# Altium footprint library SOIC.PcbLib: 2 footprints
Each footprint in its own frame and in the unit in brackets; x right, y up, seen from the top. Pads: shape width x height; smd on the part's side, far side on the other; paste and mask are expansions set on the pad; w line width, h text height; cw(c..) or ccw(c..) is an arc to the next point about the centre after c.
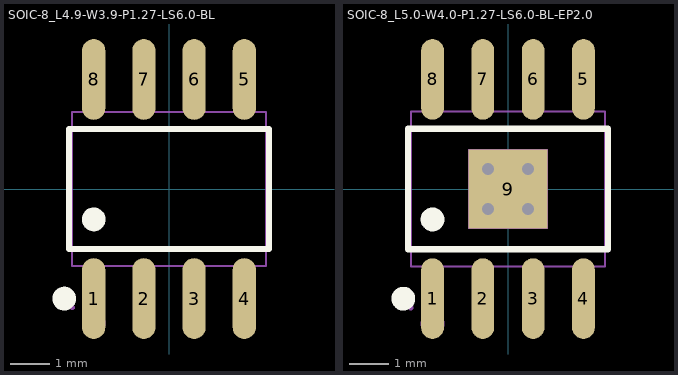
[diagram p0: the footprints below, top view; thin cyan lines are the x and y axes]

## SOIC-8_L4.9-W3.9-P1.27-LS6.0-BL [mm]
pads (8):
  oval 0.588x2.045 smd: 1(-1.905,-2.772) 2(-0.635,-2.772) 3(0.635,-2.772) 4(1.905,-2.772) 5(1.905,2.772) 6(0.635,2.772) 7(-0.635,2.772) 8(-1.905,2.772)
Top Overlay:
  circle w0.3: c-1.905,-0.769 r0.15
  circle w0.3: c-2.652,-2.772 r0.15
  lines w0.152: -2.526,-1.521 -2.526,1.521 2.526,1.521 2.526,-1.521 -2.526,-1.521
Mechanical 6:
  circle w0.3: c-1.905,-3.4 r0.15
Mechanical 15:
  region: -2.39,-3 -2.39,-2.975 -2.425,-2.94 -2.475,-2.94 -2.51,-2.975 -2.51,-3 -2.51,-3.025 -2.475,-3.06 -2.425,-3.06 -2.39,-3.025
  region: -2.115,-3 -2.115,-2.165 -1.695,-2.165 -1.695,-3
  region: -2.115,-2.175 -2.115,-1.94 -1.695,-1.94 -1.695,-2.175
  region: -0.845,-3 -0.845,-2.165 -0.425,-2.165 -0.425,-3
  region: -0.845,-2.175 -0.845,-1.94 -0.425,-1.94 -0.425,-2.175
  region: 0.425,-3 0.425,-2.165 0.845,-2.165 0.845,-3
  region: 0.425,-2.175 0.425,-1.94 0.845,-1.94 0.845,-2.175
  region: 1.695,-3 1.695,-2.165 2.115,-2.165 2.115,-3
  region: 1.695,-2.175 1.695,-1.94 2.115,-1.94 2.115,-2.175
  region: -2.115,3 -2.115,2.165 -1.695,2.165 -1.695,3
  region: -2.115,2.175 -2.115,1.94 -1.695,1.94 -1.695,2.175
  region: -0.845,3 -0.845,2.165 -0.425,2.165 -0.425,3
  region: -0.845,2.175 -0.845,1.94 -0.425,1.94 -0.425,2.175
  region: 0.425,3 0.425,2.165 0.845,2.165 0.845,3
  region: 0.425,2.175 0.425,1.94 0.845,1.94 0.845,2.175
  region: 1.695,3 1.695,2.165 2.115,2.165 2.115,3
  region: 1.695,2.175 1.695,1.94 2.115,1.94 2.115,2.175
  lines w0.051: -2.45,-1.95 -2.45,1.95 2.45,1.95 2.45,-1.95 -2.45,-1.95
3D body "U2.step": height 1.72, standoff 0, extent -2.407,-3 2.408,3

## SOIC-8_L5.0-W4.0-P1.27-LS6.0-BL-EP2.0 [mil]
height 62.99
pads (9):
  oval 22.6x80.2 smd mask+2: 1(-75,-109) 2(-25,-109) 3(25,-109) 4(75,-109) 5(75,109) 6(25,109) 7(-25,109) 8(-75,109)
  rect 78.7x78.7 smd mask+2: 9(0,0)
via 19.7,-19.7 diameter 24 hole 12
via -19.7,-19.7 diameter 24 hole 12
via -19.7,19.7 diameter 24 hole 12
via 19.7,19.7 diameter 24 hole 12
Top Overlay:
  circle w11.8: c-104.1,-109 r5.9
  circle w11.8: c-75,-30.3 r5.9
  lines w6: -99.5,-59.9 99.5,-59.9 99.5,59.9 -99.5,59.9 -99.5,-59.9
Mechanical 6:
  circle w11.8: c-75,-133.9 r5.9
Mechanical 15:
  region: -39.4,-39.4 -39.4,39.4 39.4,39.4 39.4,-39.4
  region: 66.9,85.6 66.9,76.4 83.1,76.4 83.1,85.6
  region: 66.9,118.1 66.9,85.2 83.1,85.2 83.1,118.1
  region: 16.9,85.6 16.9,76.4 33.1,76.4 33.1,85.6
  region: 16.9,118.1 16.9,85.2 33.1,85.2 33.1,118.1
  region: -33.1,85.6 -33.1,76.4 -16.9,76.4 -16.9,85.6
  region: -33.1,118.1 -33.1,85.2 -16.9,85.2 -16.9,118.1
  region: -83.1,85.6 -83.1,76.4 -66.9,76.4 -66.9,85.6
  region: -83.1,118.1 -83.1,85.2 -66.9,85.2 -66.9,118.1
  region: 66.9,-85.6 66.9,-76.4 83.1,-76.4 83.1,-85.6
  region: 66.9,-118.1 66.9,-85.2 83.1,-85.2 83.1,-118.1
  region: 16.9,-85.6 16.9,-76.4 33.1,-76.4 33.1,-85.6
  region: 16.9,-118.1 16.9,-85.2 33.1,-85.2 33.1,-118.1
  region: -33.1,-85.6 -33.1,-76.4 -16.9,-76.4 -16.9,-85.6
  region: -33.1,-118.1 -33.1,-85.2 -16.9,-85.2 -16.9,-118.1
  region: -83.1,-85.6 -83.1,-76.4 -66.9,-76.4 -66.9,-85.6
  region: -83.1,-118.1 -83.1,-85.2 -66.9,-85.2 -66.9,-118.1
  region: -94.1,-118.1 -94.1,-117.11 -95.51,-115.7 -97.49,-115.7 -98.9,-117.11 -98.9,-118.1 -98.9,-119.09 -97.49,-120.5 -95.51,-120.5 -94.1,-119.09 -94.1,-118.1
  lines w2: -96.5,-76.8 96.5,-76.8 96.5,76.8 -96.5,76.8 -96.5,-76.8
3D body "U1.step": height 67.72, standoff 0, extent -94.78,-118.11 94.78,118.11